# EAGLE library part 64901221022 (library Wire-to-Board)
WR-MPC4-4.20mm Male Dual Row Angled Header with Mounting Flanges for Screw-in Retention,12 pins=>Code : Con_WTB_MPC4_2_PCB_64901221022 <http://katalog.we-online.de/media/thumbs2/eican/thb_Con_WTB_MPC4_2_PCB_6490xx21022_pf2.jpg> Details see: http://katalog.we-online.de/en/em/649_0xx_210_22 Created 2014-06-06, Karrer Zheng 2014 (C) Würth Elektronik
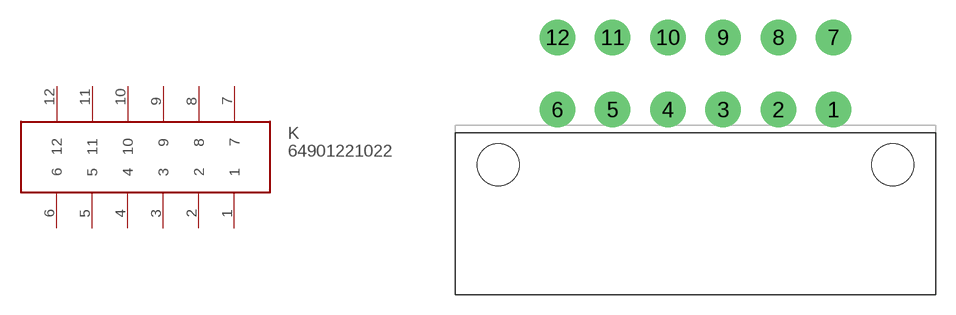
[diagram p290: symbol with the pads of 64901221022; footprint 64901221022]

Designator prefix K

## 64901221022  [64901221022]
1  1
2  2
3  3
4  4
5  5
6  6
7  7
8  8
9  9
10  10
11  11
12  12

## Footprint 64901221022 (pad centres in mm)
WR-MPC4-4.20mm Male Dual Row Angled Header with Mounting Flanges for Screw-in Retention,12 pins
drill 1.8: 1 11.365,-2.75; 2 7.165,-2.75; 3 2.965,-2.75; 4 -1.235,-2.75; 5 -5.435,-2.75; 6 -9.635,-2.75; 7 11.365,2.75; 8 7.165,2.75; 9 2.965,2.75; 10 -1.235,2.75; 11 -5.435,2.75; 12 -9.635,2.75
hole 3.2 at -14.135,-6.95
hole 3.2 at 15.865,-6.95